# Altium footprint library Connectors-Plug.PcbLib: 2 footprints
Each footprint in its own frame and in the unit in brackets; x right, y up, seen from the top. Pads: shape width x height; smd on the part's side, far side on the other; paste and mask are expansions set on the pad; w line width, h text height; cw(c..) or ccw(c..) is an arc to the next point about the centre after c.
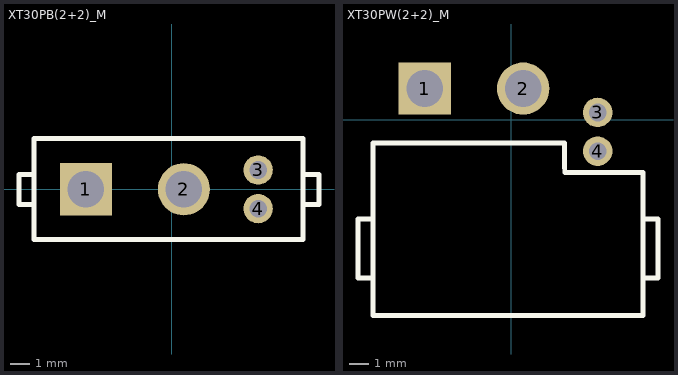
[diagram p0: the footprints below, top view; thin cyan lines are the x and y axes]

## XT30PB(2+2)_M [mm]
pads (4):
  rect 2.7x2.7 hole 1.9: 1(-4.465,0)
  round 2.7 hole 1.9: 2(0.615,0)
  round 1.524 hole 0.914: 3(4.465,1) 4(4.465,-1)
Top Overlay:
  lines w0.254: -7.15,-0.785 -7.93,-0.785 -7.93,-0.005 -7.93,0.775 -7.15,0.775 ; 6.84,-0.785 7.62,-0.785 7.62,-0.005 7.62,0.775 6.84,0.775 ; -7.15,-2.61 6.8,-2.61 6.8,2.64 -7.15,2.64 -7.15,-2.61

## XT30PW(2+2)_M [mm]
pads (4):
  rect 2.7x2.7 hole 1.9: 1(-4.465,1.618)
  round 2.7 hole 1.9: 2(0.615,1.618)
  round 1.524 hole 0.914: 3(4.465,0.382) 4(4.465,-1.617)
Top Overlay:
  lines w0.254: -7.15,-1.192 -7.15,-10.112 6.8,-10.112 6.8,-2.712 ; -7.14,-8.172 -7.92,-8.172 -7.92,-5.907 -7.92,-5.128 -7.14,-5.128 ; -7.09,-1.192 2.76,-1.192 2.76,-2.482 2.765,-2.487 2.765,-2.712 6.765,-2.712 ; 6.805,-8.172 7.585,-8.172 7.585,-5.907 7.585,-5.128 6.805,-5.128